# Altium schematic symbol library SI3433CDV-T1-GE3.Schlib: 1 symbol
Pins are listed as number, name and electrical type; pins without a type are passive.

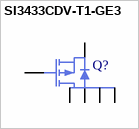
[diagram p0: symbol SI3433CDV-T1-GE3]

## SI3433CDV-T1-GE3
designator Q?  (value not drawn)
pins: 1 D, 2 D, 3 G, 4 S, 5 D, 6 D